# EAGLE library part LINX-RXM-GNSS-TM (library df4iah_gps)
Linx TM-Series RXM-GNSS-TM Linx Technologies TM Series GNSS Receiver Module data entry: 2015-01-11 by DF4IAH.
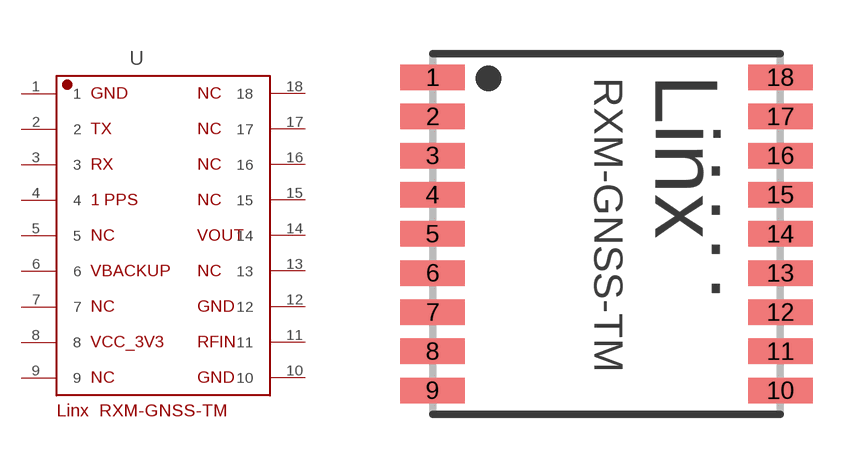
[diagram p2: symbol with the pads of LINX-RXM-GNSS-TM; footprint LINX-RXM-GNSS-TM]

Designator prefix U

## LINX-RXM-GNSS-TM  [LINX-RXM-GNSS-TM]
1  1  pas
2  2  in
3  3  out
4  4  out
5  5  nc
6  6  pwr
7  7  nc
8  8  pwr
9  9  nc
10  10  pas
11  11  in
12  12  pas
13  13  nc
14  14  out
15  15  nc
16  16  nc
17  17  nc
18  18  nc

## Footprint LINX-RXM-GNSS-TM (pad centres in mm)
Linx TM-Series 712-RXM-GNSS-TM-B Linx Technologies TM Series GNSS Receiver Module data entry: 2015-01-11 by DF4IAH.
smd 1.803 x 0.711: 1 -4.847,4.369; 2 -4.847,3.277; 3 -4.847,2.184; 4 -4.847,1.092; 5 -4.847,0; 6 -4.847,-1.092; 7 -4.847,-2.184; 8 -4.847,-3.277; 9 -4.847,-4.369; 10 4.847,-4.369; 11 4.847,-3.277; 12 4.847,-2.184; 13 4.847,-1.092; 14 4.847,0; 15 4.847,1.092; 16 4.847,2.184; 17 4.847,3.277; 18 4.847,4.369